# Altium schematic symbol library MyLibraryV2.SchLib: 572 symbols (part 10 of 11)
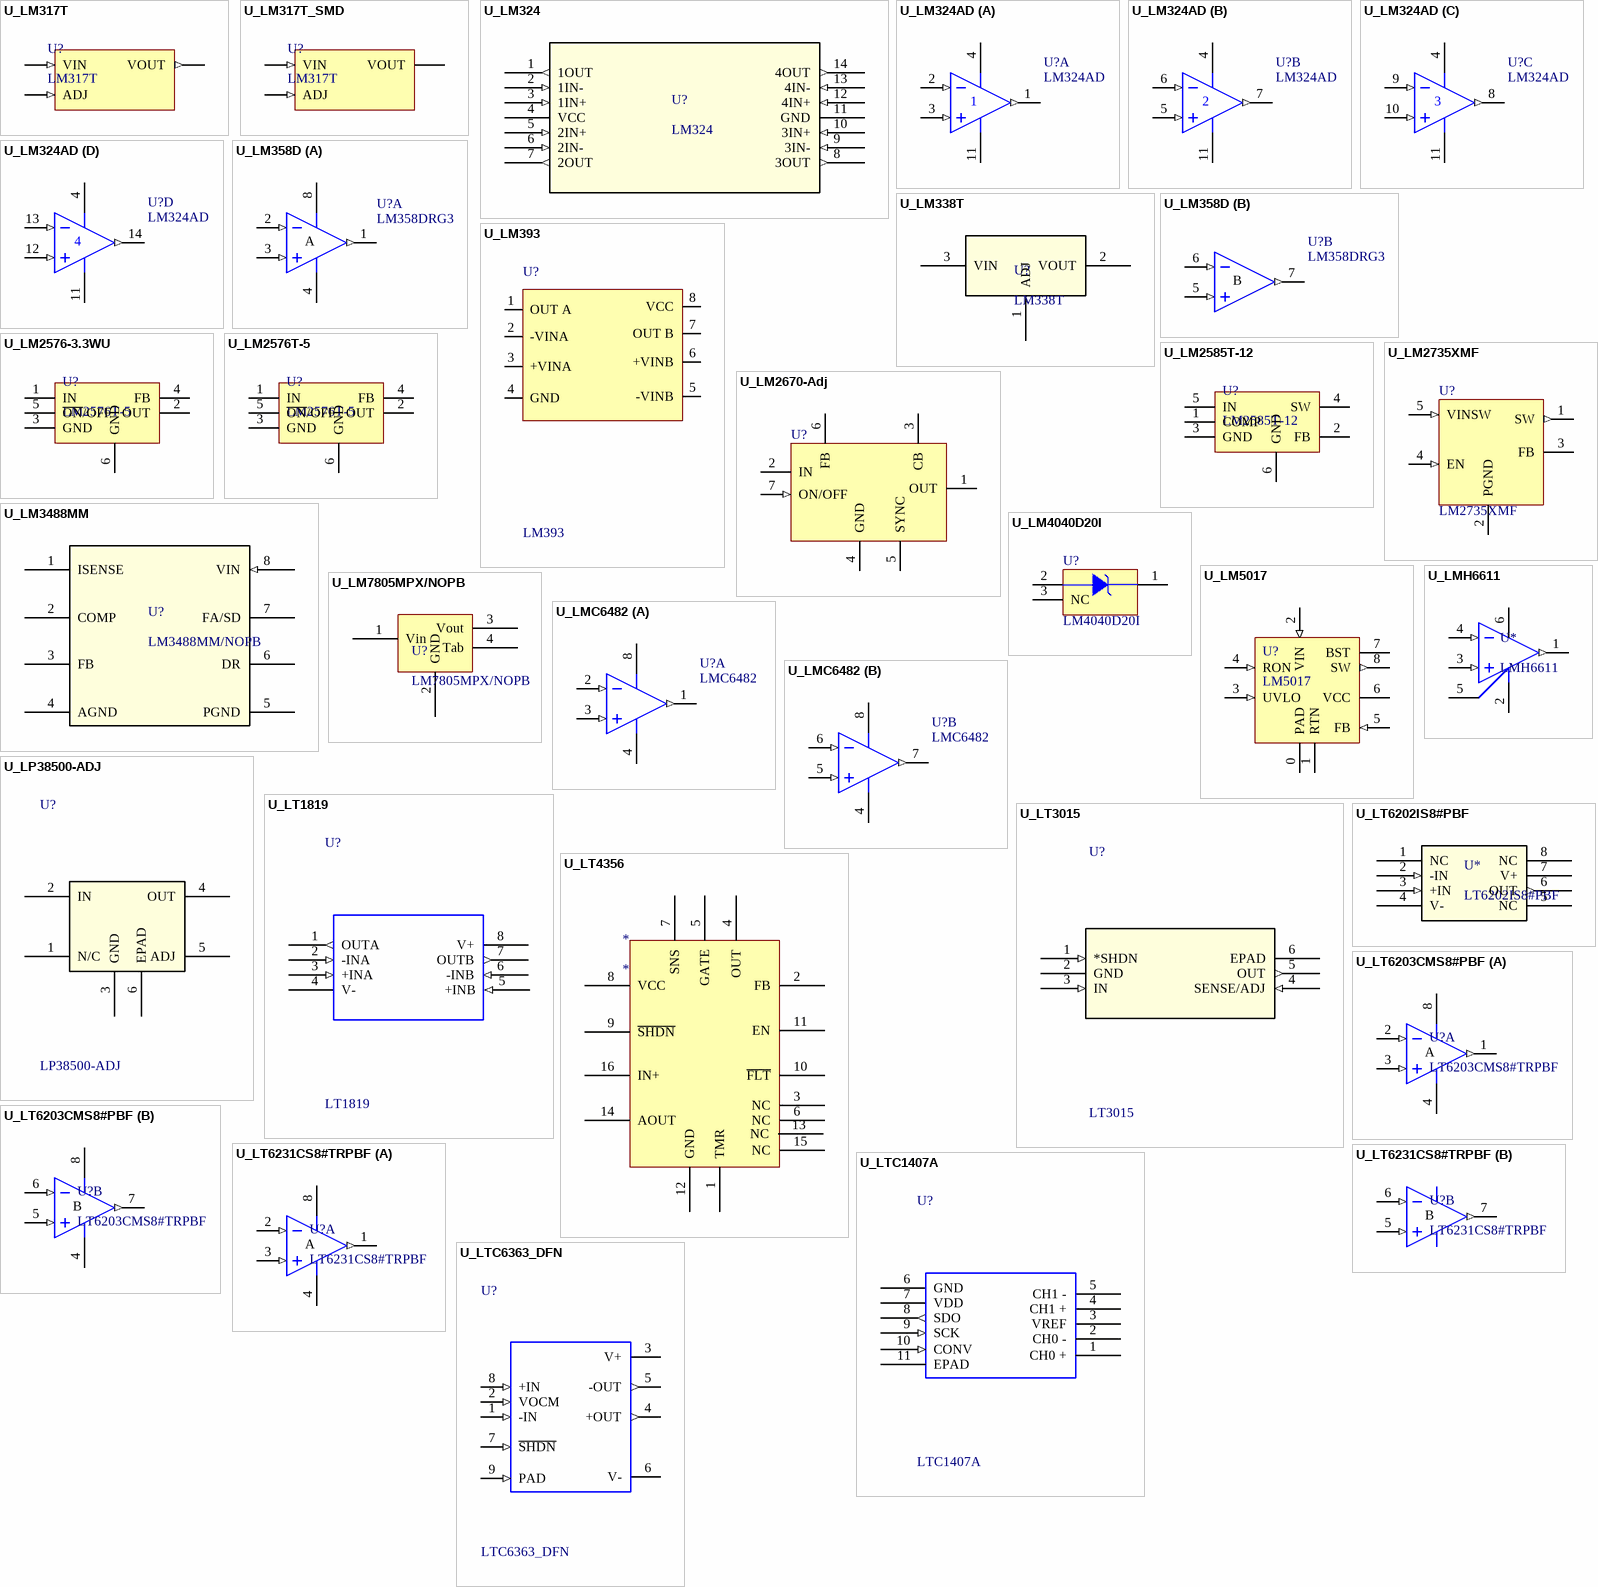
[diagram p25: symbols U_LM317T to U_LTC6363_DFN]

## U_LM358D
designator U?, comment LM358DRG3
Dual standard operational amplifier 8-SOIC 0 to 70; Manufacturer: Texas Instruments; Number of Channels: 2; Output Current: 20mA; Min Supply Voltage: 3V; Slew Rate: 0.3V/µs; Unity Gain Bandwidth Product: 700kHz; Common Mode Rejection Ratio: 65dB; Max Supply Voltage: 32V; Min Dual Supply Voltage: 1.5V; Max Dual Supply Voltage: 16V; Voltage Gain: 100dB; Input Offset Voltage (Vos): 3mV; Input Bias Current: 20nA; Operating Supply Current: 1mA; Output Current per Channel: 30mA; Amplifier Type: GENERAL PURPOSE; Mounting Technology: Surface Mount; Case/Package: SOIC; Pins: 8; Min Operating Temperature: 0°C; Max Operating Temperature: 70°C; Package Quantity: 2500; Packaging: Tape and Reel; Bandwidth: 700kHz; Gain Bandwidth Product: 700kHz; Number of Circuits: 2; Number of Elements: 2; Number of Amplifiers: 2; Supply Current: 1mA; Series: -; Technology: BIPOLAR; Operating Supply Voltage: 16V; Radiation Hardening: No; Reach SVHC Compliant: No; Lead Free: Lead Free; RoHS Compliant: Yes; ComponentLink1URL: https://datasheet.ciiva.com/23838/lm158a-23838839.pdf?src-supplier=Newark; ComponentLink1Description: https://datasheet.ciiva.com/23838/lm158a-23838839.pdf?src-supplier=Newark; ComponentLink2URL: https://datasheet.ciiva.com/46387/1874566-46387194.pdf?src-supplier=Element14; ComponentLink2Description: https://datasheet.ciiva.com/46387/1874566-46387194.pdf?src-supplier=Element14; ComponentLink3URL: https://datasheet.ciiva.com/1795/lm358-1795497.pdf?src-supplier=Digikey; ComponentLink3Description: https://datasheet.ciiva.com/1795/lm358-1795497.pdf?src-supplier=Digikey; ComponentLink4URL: https://datasheet.ciiva.com/1795/lm358-1795496.pdf?src-supplier=Digikey; ComponentLink4Description: https://datasheet.ciiva.com/1795/lm358-1795496.pdf?src-supplier=Digikey; ComponentLink5URL: https://datasheet.ciiva.com/1795/lm358-1795498.pdf?src-supplier=Digikey; ComponentLink5Description: https://datasheet.ciiva.com/1795/lm358-1795498.pdf?src-supplier=Digikey; Supplier 1: Mouser; Supplier Part Number 1: 595-LM358DRG3; Manufacturer Part Number: LM358DRG3; RoHS: Yes; Category: Amplifiers - Op Amps, Buffer, Instrumentation; Stock 1: 14462; Pricing 1: 1=0,4, 10=0,3, 50=0,3, 100=0,168, 1000=0,126, 10000=0,108 (USD); Value: LM358DRG3
footprint U_SOIC-8_2 (SOIC, 8-Leads, Body 4.9x3.9mm, Pitch 1.27mm, IPC Low Density)
part A pins: 1 OUT (out), 2 IN- (in), 3 IN+ (in), 4 GND (power), 8 VCC (power)
part B pins: 5 IN+ (in), 6 IN- (in), 7 OUT (out)
part A text: A
part B text: B

## U_LM393
designator U?, comment LM393
(Modificar) Integrado; Value: LM393
pins: 1 OUT A, 2 -VINA , 3 +VINA, 4 GND, 5 -VINB, 6 +VINB, 7 OUT B, 8 VCC

## U_LM2576-3.3WU
designator U?, comment LM2576T-5
Value: LM2576T-5; Supplier 1: Mouser; Supplier Part Number 1: 998-LM2576-3.3WUTR
footprint U_SMD_TO-263-5
pins: 1 IN, 2 OUT, 3 GND, 4 FB, 5 ~{O}~{N}/OFF, 6 GND

## U_LM2576T-5
designator U?, comment LM2576T-5
Value: LM2576T-5
footprint U_SMD_TO-263-5
pins: 1 IN, 2 OUT, 3 GND, 4 FB, 5 ~{O}~{N}/OFF, 6 GND

## U_LM2585T-12
designator U?, comment LM2585T-12
Value: LM2585T-12
footprint U_SMD_TO-263-5
pins: 1 COMP, 2 FB, 3 GND, 4 SW, 5 IN, 6 GND

## U_LM2670-Adj
designator U?, comment LM2670T-ADJ/NOPB  (value not drawn)
Conv DC-DC 8V to 40V Synchronous Step Down Single-Out 1.2V to 37V 3A 7-Pin(7+Tab) TO-220 Tube; Manufacturer: TI National Semiconductor; Number of Outputs: 1; Switching Frequency: 260kHz; Quiescent Current: 4.2mA; Efficiency: 88%; Output Type: Adjustable; Synchronous Rectifier: No; Output Configuration: Positive; Mounting Technology: Through Hole; Case/Package: TO-220; Pins: 7; Min Operating Temperature: -40°C; Max Operating Temperature: 125°C; Output Voltage: 37V; Output Current: 3A; Packaging: Rail/Tube; Frequency: 260kHz; Max Supply Voltage: 40V; Max Output current: 3A; Min Input Voltage: 8V; Series: SIMPLE SWITCHER®; Min Supply Voltage: 8V; Min Output Voltage: 1.2V; Max Output Voltage: 37V; Termination: Through Hole; Length: 10.16mm; Width: 4.57mm; Height: 8.69mm; Reach SVHC Compliant: No; Lead Free: Lead Free; RoHS Compliant: Yes; ComponentLink1URL: https://datasheet.ciiva.com/41457/001013855-da-01-en-ic-reg-buc-lm2670t-adj-nopb-to-220-7-tid-41457846.pdf?src-supplier=Conrad; ComponentLink1Description: https://datasheet.ciiva.com/41457/001013855-da-01-en-ic-reg-buc-lm2670t-adj-nopb-to-220-7-tid-41457846.pdf?src-supplier=Conrad; Supplier 1: Mouser; Supplier Part Number 1: 926-LM2670T-ADJ/NOPB; Manufacturer Part Number: LM2670T-ADJ/NOPB; RoHS: Yes; Category: Voltage Regulators - Switching; Stock 1: 424; Pricing 1: 1=5,45, 10=4,63, 50=4,63, 100=3,8, 1000=2,87, 10000=2,69 (USD); Value: LM2670T-ADJ/NOPB
footprint U_THT_TO-220-7
pins: 1 OUT, 2 IN, 3 CB, 4 GND, 5 SYNC, 6 FB, 7 ON/OFF (in)

## U_LM2735XMF
designator U?, comment LM2735XMF
520kHz/1.6MHz space efficient boost and SEPIC DC-DC regulator 5-SOT-23 -40 to 125; Manufacturer: TI National Semiconductor; Manufacturer Part Number: LM2735XMF/NOPB; Max Supply Voltage: 5.5V; Max Output current: 3A; Min Supply Voltage: 2.7V; Output Voltage: 24V; Switching Frequency: 1.6MHz; Efficiency: 90%; Number of Outputs: 1; Synchronous Rectifier: No; Min Output Voltage: 3V; Quiescent Current: 7mA; Topology: Boost,SEPIC; Output Type: Adjustable; Supply Current: 500uA; Value: LM2735XMF; Mounting Technology: Surface Mount; Case/Package: SOT-23; Pins: 5; Min Operating Temperature: -40°C; Max Operating Temperature: 125°C; Output Current: 3A; Min Input Voltage: 2.7V; Packaging: Tape and Reel; Package Quantity: 1000; Max Output Voltage: 24V; Operating Supply Voltage: 5.5V; Series: LM2735; Length: 2.92mm; Width: 1.6mm; Height: 1.02mm; Radiation Hardening: No; Reach SVHC Compliant: No; Lead Free: Lead Free; RoHS Compliant: Yes; ComponentLink1URL: https://datasheet.ciiva.com/22669/1802021-22669478.pdf?src-supplier=Element14; ComponentLink1Description: https://datasheet.ciiva.com/22669/1802021-22669478.pdf?src-supplier=Element14; ComponentLink2URL: https://datasheet.ciiva.com/6579/lm2735-6579929.pdf?src-supplier=Digikey; ComponentLink2Description: https://datasheet.ciiva.com/6579/lm2735-6579929.pdf?src-supplier=Digikey; ComponentLink3URL: https://datasheet.ciiva.com/6579/lm2735-6579933.pdf?src-supplier=Digikey; ComponentLink3Description: https://datasheet.ciiva.com/6579/lm2735-6579933.pdf?src-supplier=Digikey; ComponentLink4URL: https://datasheet.ciiva.com/6579/lm2735-6579935.pdf?src-supplier=Digikey; ComponentLink4Description: https://datasheet.ciiva.com/6579/lm2735-6579935.pdf?src-supplier=Digikey; ComponentLink5URL: https://datasheet.ciiva.com/3221/lm2735-3221644.pdf?src-supplier=Avnet; ComponentLink5Description: https://datasheet.ciiva.com/3221/lm2735-3221644.pdf?src-supplier=Avnet; ComponentLink6URL: https://datasheet.ciiva.com/3220/lm2735-3220073.pdf?src-supplier=Avnet; ComponentLink6Description: https://datasheet.ciiva.com/3220/lm2735-3220073.pdf?src-supplier=Avnet; Supplier 1: Mouser; Supplier Part Number 1: 926-LM2735XMF/NOPB; RoHS: Yes; Category: Voltage Regulators - Switching; Stock 1: 5239; Pricing 1: 1=2,86, 10=2,43, 50=2,43, 100=2,06, 1000=1,4, 10000=1,25 (USD)
footprint U_SOT-23-5
pins: 1 SW (out), 2 PGND (power), 3 FB, 4 EN (in), 5 VINSW (in)

## U_LM3488MM
designator U?, comment LM3488MM/NOPB
Boost, Flyback, SEPIC Regulator Positive Output Step-Up, Step-Up/Step-Down  DC-DC Controller IC 8-VSSOP; Manufacturer: Texas Instruments; Frequency: 400kHz; Output Voltage: 300V; Output Current: 1A; Number of Outputs: 1; Min Supply Voltage: 2.97V; Max Supply Voltage: 40V; Switching Frequency: 1MHz; Max Duty Cycle: 100%; Max Output Voltage: 5V; Quiescent Current: 2.7mA; Output Type: Adjustable; Synchronous Rectifier: No; Clock Sync: Yes; Mounting Technology: Surface Mount; Case/Package: VSSOP; Pins: 8; Min Operating Temperature: -40°C; Max Operating Temperature: 125°C; Packaging: Tape and Reel; Package Quantity: 1000; Max Output current: 1A; Min Input Voltage: 2.97V; Termination: SMD/SMT; Topology: Boost,Flyback,SEPIC; Clock Frequency: 1MHz; Duty Cycle: 100%; Series: -; Output Configuration: Positive; Number of Output Phases: 1; Length: 3mm; Width: 3mm; Height: 0.86mm; Radiation Hardening: No; Reach SVHC Compliant: No; Lead Free: Lead Free; RoHS Compliant: Yes; ComponentLink1URL: https://datasheet.ciiva.com/6598/lm3488-6598294.pdf?src-supplier=Digikey; ComponentLink1Description: https://datasheet.ciiva.com/6598/lm3488-6598294.pdf?src-supplier=Digikey; ComponentLink2URL: https://datasheet.ciiva.com/14150/lm3488-eng-tds-14150573.pdf?src-supplier=Distrelec; ComponentLink2Description: https://datasheet.ciiva.com/14150/lm3488-eng-tds-14150573.pdf?src-supplier=Distrelec; ComponentLink3URL: https://datasheet.ciiva.com/48513/lm3488-48513290.pdf?src-supplier=Avnet; ComponentLink3Description: https://datasheet.ciiva.com/48513/lm3488-48513290.pdf?src-supplier=Avnet; Supplier 1: Mouser; Supplier Part Number 1: 926-LM3488MM/NOPB; Manufacturer Part Number: LM3488MM/NOPB; RoHS: Yes; Category: Voltage Regulators - Switching; Stock 1: 5540; Pricing 1: 1=2,75, 10=2,34, 50=2,34, 100=2,03, 1000=1,45, 10000=1,32 (USD); Value: LM3488MM/NOPB
footprint U_TSSOP-8_MSOP-8_LM3488MM (Step Up 100V)
pins: 1 ISENSE, 2 COMP, 3 FB, 4 AGND, 5 PGND, 6 DR (power), 7 FA/SD, 8 VIN (in)

## U_LM4040D20I
designator U?, comment LM4040D20I
(Modificar) Integrado; Value: LM4040D20I
footprint U_SOT-23
pins: 1 K, 2 A, 3 NC

## U_LM5017
designator U?, comment LM5017
7.5-100V Wide Vin, 600mA Constant On-Time Synchronous Buck Regulator 8-SO PowerPAD -40 to 125; Manufacturer: TI National Semiconductor; Manufacturer Part Number: LM5017MR/NOPB; Switching Frequency: 1MHz; Max Supply Voltage: 100V; Number of Outputs: 1; Min Input Voltage: 7.5V; Min Output Voltage: 1.225V; Max Output Voltage: 90V; Synchronous Rectifier: Yes; Quiescent Current: 1.75mA; Output Type: Adjustable; Output Configuration: Positive; Value: LM5017; Mounting Technology: Surface Mount; Pins: 8; Min Operating Temperature: -40°C; Max Operating Temperature: 125°C; Output Current: 600mA; Packaging: Rail/Tube; Lead Free: Lead Free; RoHS Compliant: Yes; ComponentLink1URL: https://datasheet.ciiva.com/6603/lm5017-6603724.pdf?src-supplier=Digikey; ComponentLink1Description: https://datasheet.ciiva.com/6603/lm5017-6603724.pdf?src-supplier=Digikey; Supplier 1: Mouser; Supplier Part Number 1: 926-LM5017MR/NOPB; RoHS: Yes; Category: Voltage Regulators - Switching; Stock 1: 4601; Pricing 1: 1=3,87, 10=3,43, 50=3,43, 100=2,9, 1000=2,63, 10000=2,11 (USD)
pins: 0 PAD, 1 RTN, 2 VIN (in), 3 UVLO (in), 4 RON (in), 5 FB (in), 6 VCC (power), 7 BST (power), 8 SW (out)

## U_LM7805MPX/NOPB
designator U?, comment LM7805MPX/NOPB
Regulador; Manufacturer: Texas Instruments; Quiescent Current: 8mA; Dropout Voltage: 2V; Output Type: Fixed; Output Configuration: Positive; Number of Regulators: 1; Max Supply Voltage: 35V; Min Output Voltage: 5V; Output Current: 1.5A; Power Supply Rejection Ratio (PSRR): 80dB; Accuracy: 3%; Min Supply Voltage: 7.5V; Number of Outputs: 1NUMBER; Output Voltage: 5mV; Mounting Technology: Surface Mount; Case/Package: SOT-223-4; Pins: 4NUMBER; Weight: 0.007055oz; Min Operating Temperature: 0°C; Max Operating Temperature: 125°C; Series: -; Packaging: Tape and Reel; Package Quantity: 2000; Nominal Supply Current: 8mA; Length: 6.5mm; Width: 3.5mm; Height: 1.8mm; Thickness: 1.6mm; Lead Free: Lead Free; RoHS Compliant: Yes; Supplier 1: Mouser; Supplier Part Number 1: 595-LM7805MPX/NOPB; Manufacturer Part Number: LM7805MPX/NOPB; RoHS: Yes; Category: Voltage Regulators - Linear; Stock 1: 45012; Pricing 1: 1=1,6, 10=1,44, 50=1,44, 100=1,12, 1000=0,733, 10000=0,625 (USD); Value: LM7805MPX/NOPB
footprint U_SOT-223
pins: 1 Vin, 2 GND, 3 Vout, 4 Tab

## U_LMC6482
designator U?, comment LMC6482
(Modificar) Integrado; ComponentLink1Description: Manufacturer Link; ComponentLink1URL: http://www.ti.com/; Value: LMC6482
pins on every part: 4 GND (power), 8 VDD (power)
part A pins: 1 OUT (out), 2 IN- (in), 3 IN+ (in)
part B pins: 5 IN+ (in), 6 IN- (in), 7 OUT (out)

## U_LMH6611
designator U*, comment LMH6611
OAMP SMD TSOT-23-6; Manufacturer: TI National Semiconductor; Manufacturer Part Number: LMH6611MKE/NOPB; Max Supply Voltage: 11V; Min Supply Voltage: 2.7V; Slew Rate: 460V/µs; Unity Gain Bandwidth Product: 135MHz; Common Mode Rejection Ratio: 81dB; Min Dual Supply Voltage: 1.35V; Max Dual Supply Voltage: 5.5V; Voltage Gain: 103dB; Dual Supply Voltage: 5V; Number of Channels: 1; Output Current: 100mA; Input Bias Current: 6.5uA; Input Offset Voltage (Vos): 74uV; Operating Supply Current: 3.3mA; Output Current per Channel: 120mA; Amplifier Type: GENERAL PURPOSE; Supply Current: 3.2mA; Bandwidth: 345MHz; -3db Bandwidth: 365MHz; Settling Time: 67ns; Mounting Technology: Surface Mount; Case/Package: TSOT; Pins: 6; Min Operating Temperature: -40°C; Max Operating Temperature: 125°C; Packaging: Tape and Reel; Series: PowerWise®; Package Quantity: 250; Number of Circuits: 1; Gain Bandwidth Product: 135MHz; Number of Elements: 1; Power Supply Rejection Ratio (PSRR): 81dB; Max Output current: 100mA; Number of Amplifiers: 1; Length: 2.97mm; Width: 1.65mm; Height: 0.87mm; Reach SVHC Compliant: No; Lead Free: Lead Free; RoHS Compliant: Yes; ComponentLink1URL: https://datasheet.ciiva.com/6629/lmh6611-6629638.pdf?src-supplier=Digikey; ComponentLink1Description: https://datasheet.ciiva.com/6629/lmh6611-6629638.pdf?src-supplier=Digikey; ComponentLink2URL: https://datasheet.ciiva.com/6629/lmh6611-6629639.pdf?src-supplier=Digikey; ComponentLink2Description: https://datasheet.ciiva.com/6629/lmh6611-6629639.pdf?src-supplier=Digikey; ComponentLink3URL: https://datasheet.ciiva.com/6629/lmh6611-6629640.pdf?src-supplier=Digikey; ComponentLink3Description: https://datasheet.ciiva.com/6629/lmh6611-6629640.pdf?src-supplier=Digikey; ComponentLink4URL: https://datasheet.ciiva.com/48709/001010969-da-01-en-ic-amp-345mhz-lmh6611mke-nopb-sot-6-tid-48709436.pdf?src-supplier=Conrad; ComponentLink4Description: https://datasheet.ciiva.com/48709/001010969-da-01-en-ic-amp-345mhz-lmh6611mke-nopb-sot-6-tid-48709436.pdf?src-supplier=Conrad; Supplier 1: Mouser; Supplier Part Number 1: 926-LMH6611MKE/NOPB; RoHS: Yes; Category: Amplifiers - Op Amps, Buffer, Instrumentation; Stock 1: 1318; Pricing 1: 1=2,47, 10=2,11, 50=2,11, 100=1,81, 1000=1,24, 10000=1,11 (USD); Value: LMH6611
footprint U_SOT-23-6 -TLV2472
pins: 1 OUT (out), 2 V- (power), 3 IN+ (in), 4 IN- (in), 5 ~DIS (power), 6 V+ (power)

## U_LP38500-ADJ
designator U?, comment LP38500-ADJ
(Modificar) Integrado; Value: LP38500-ADJ
pins: 1 N/C, 2 IN (power), 3 GND, 4 OUT, 5 ADJ, 6 EPAD

## U_LT1819
designator U?, comment LT1819
(Modificar) Integrado; Value: LT1819
pins: 1 OUTA (out), 2 -INA (in), 3 +INA (in), 4 V- (power), 5 +INB (in), 6 -INB (in), 7 OUTB (out), 8 V+ (power)

## U_LT3015
designator U?, comment LT3015
(Modificar) Integrado; Value: LT3015
pins: 1 *SHDN (in), 2 GND (power), 3 IN (in), 4 SENSE/ADJ (in), 5 OUT (out), 6 EPAD

## U_LT4356
designator *
footprint U_DO-16
pins: 1 TMR, 2 FB, 3 NC, 4 OUT, 5 GATE, 6 NC, 7 SNS, 8 VCC, 9 ~{S}~{H}~{D}~{N}, 10 ~{F}~{L}~{T}, 11 EN, 12 GND, 13 NC, 14 AOUT, 15 NC, 16 IN+

## U_LT6202IS8#PBF
designator U*, comment LT6202IS8#PBF
(Modificar) Integrado; Value: LT6202IS8#PBF
pins: 1 NC, 2 -IN (in), 3 +IN (in), 4 V- (power), 5 NC, 6 OUT (out), 7 V+ (power), 8 NC

## U_LT6203CMS8#PBF
designator U?, comment LT6203CMS8#TRPBF
Op Amp Dual Gp R-r I/o ±6.3V/12.6V 8-PIN MSOP T/r; Manufacturer: Analog Devices / Linear Technology; Unity Gain Bandwidth Product: 90MHz; Common Mode Rejection Ratio: 60dB; Min Dual Supply Voltage: 1.25V; Max Dual Supply Voltage: 6.3V; Nominal Gain Bandwidth Product: 100MHz; Slew Rate: 25V/µs; Max Supply Voltage: 12.6V; Min Supply Voltage: 2.5V; Number of Circuits: 2; Input Bias Current: 3.8uA; Input Offset Voltage (Vos): 500uV; Operating Supply Current: 2.8mA; Output Current per Channel: 40mA; Voltage Gain: 96.9dB; Amplifier Type: GENERAL PURPOSE; Case/Package: MSOP; Pins: 8; Min Operating Temperature: 0°C; Max Operating Temperature: 70°C; Package Quantity: 2500; Packaging: Tape and Reel; Gain Bandwidth Product: 100MHz; Number of Elements: 2; Power Supply Rejection Ratio (PSRR): 60dB; Number of Channels: 2; Series: -; Technology: BIPOLAR; Lead Free: Lead Free; RoHS Compliant: Yes; ComponentLink1URL: https://datasheet.ciiva.com/1808/2590-1808110.pdf?src-supplier=Digikey; ComponentLink1Description: https://datasheet.ciiva.com/1808/2590-1808110.pdf?src-supplier=Digikey; Supplier 1: Mouser; Supplier Part Number 1: 584-LT6203CMS8#TRPBF; Manufacturer Part Number: LT6203CMS8#TRPBF; RoHS: Yes; Category: Amplifiers - Op Amps, Buffer, Instrumentation; Stock 1: 33; Pricing 1: 1=7,37, 10=6,66, 50=6,35, 100=5,51, 1000=4,18, 10000=4,03 (USD); Value: LT6203CMS8#TRPBF
footprint U_MSOP-8_LT6203CMS8#PBF
part A pins: 1 OUTA (out), 2 INA- (in), 3 INA+ (in), 4 V- (power), 8 V+ (power)
part B pins: 4 V- (power), 5 INB+ (in), 6 INB- (in), 7 OUTB (out), 8 V+ (power)
part A text: A
part B text: B

## U_LT6231CS8#TRPBF
designator U?, comment LT6231CS8#TRPBF
LT6231 - 215MHz, Rail-to-Rail Output, 1.1nV/rtHz, 3.5mA Op Amp Family; Manufacturer: Analog Devices / Linear Technology; Unity Gain Bandwidth Product: 200MHz; Common Mode Rejection Ratio: 90dB; Min Dual Supply Voltage: 1.5V; Max Dual Supply Voltage: 6.3V; Slew Rate: 70V/µs; Max Supply Voltage: 12.6V; Min Supply Voltage: 3V; Number of Circuits: 2; Input Bias Current: 5uA; Input Offset Voltage (Vos): 350uV; Operating Supply Current: 3.3mA; Output Current per Channel: 30mA; Voltage Gain: 106.02dB; Amplifier Type: GENERAL PURPOSE; Case/Package: SOIC; Pins: 8; Min Operating Temperature: 0°C; Max Operating Temperature: 70°C; Package Quantity: 2500; Nominal Gain Bandwidth Product: 215MHz; Packaging: Tape and Reel; Gain Bandwidth Product: 215MHz; Number of Elements: 2; Power Supply Rejection Ratio (PSRR): 90dB; Number of Channels: 2; Series: -; Lead Free: Lead Free; RoHS Compliant: Yes; ComponentLink1URL: https://datasheet.ciiva.com/1807/2098-1807266.pdf?src-supplier=Digikey; ComponentLink1Description: https://datasheet.ciiva.com/1807/2098-1807266.pdf?src-supplier=Digikey; Supplier 1: Mouser; Supplier Part Number 1: 584-LT6231CS8#TRPBF; Manufacturer Part Number: LT6231CS8#TRPBF; RoHS: Yes; Category: Amplifiers - Op Amps, Buffer, Instrumentation; Stock 1: 6485; Pricing 1: 1=6,32, 10=5,37, 50=5,37, 100=4,65, 1000=3,34, 10000=3,12 (USD); Value: LT6231CS8#TRPBF
footprint U_SOIC-8_2 (SOIC, 8-Leads, Body 4.9x3.9mm, Pitch 1.27mm, IPC Low Density)
part A pins: 1 OUTA (out), 2 INA- (in), 3 INA+ (in), 4 V- (power), 8 V+ (power)
part B pins: 5 INB+ (in), 6 INB- (in), 7 OUTB (out)
part A text: A
part B text: B

## U_LTC1407A
designator U?, comment LTC1407A
ADC SMD MSOP-10 (OK); Manufacturer: Analog Devices / Linear Technology; Manufacturer Part Number: LTC1407AIMSE-1#PBF; Interface: SPI,Serial; Max Power Dissipation: 14mW; Operating Supply Voltage: 3V; Min Supply Voltage: 2.7V; Max Supply Voltage: 3.6V; Number of Bits: 14; Sampling Rate: 3000000S/s; Number of Converters: 1; Resolution: 14b; Polarity: Bipolar; Power Dissipation: 100mW; Supply Type: Single; Integral Nonlinearity (INL): 4LSB; Mounting Technology: Surface Mount; Case/Package: MSOP; Pins: 10; Min Operating Temperature: -40°C; Max Operating Temperature: 85°C; Package Quantity: 50; Packaging: Rail/Tube; Number of Elements: 1; Lead Free: Lead Free; RoHS Compliant: Yes; ComponentLink1URL: https://datasheet.ciiva.com/6664/downloaddocument-donavid-h0-c1-c1155-c1001-c1158-p2484-d2198-6664777.pdf?src-supplier=Digikey; ComponentLink1Description: https://datasheet.ciiva.com/6664/downloaddocument-donavid-h0-c1-c1155-c1001-c1158-p2484-d2198-6664777.pdf?src-supplier=Digikey; Supplier 1: Mouser; Supplier Part Number 1: 584-C1407AIMSE-1PBF; RoHS: Yes; Category: Analog to Digital Converters (ADCs); Stock 1: 156; Pricing 1: 1=21,15, 10=19,45, 50=18,64, 100=16,42, 1000=16,42, 10000=16,42 (USD); Value: LTC1407A
footprint U_MSOP-10_MSE +GND
pins: 1 CH0 +, 2 CH0 -, 3 VREF, 4 CH1 +, 5 CH1 - (power), 6 GND, 7 VDD, 8 SDO (out), 9 SCK (in), 10 CONV (in), 11 EPAD (power)

## U_LTC6363_DFN
designator U?, comment LTC6363_DFN
(Modificar) Integrado; Value: LTC6363_DFN
pins: 1 -IN (in), 2 VOCM (in), 3 V+ (power), 4 +OUT (out), 5 -OUT (out), 6 V- (power), 7 ~{SHDN} (in), 8 +IN (in), 9 PAD (in)

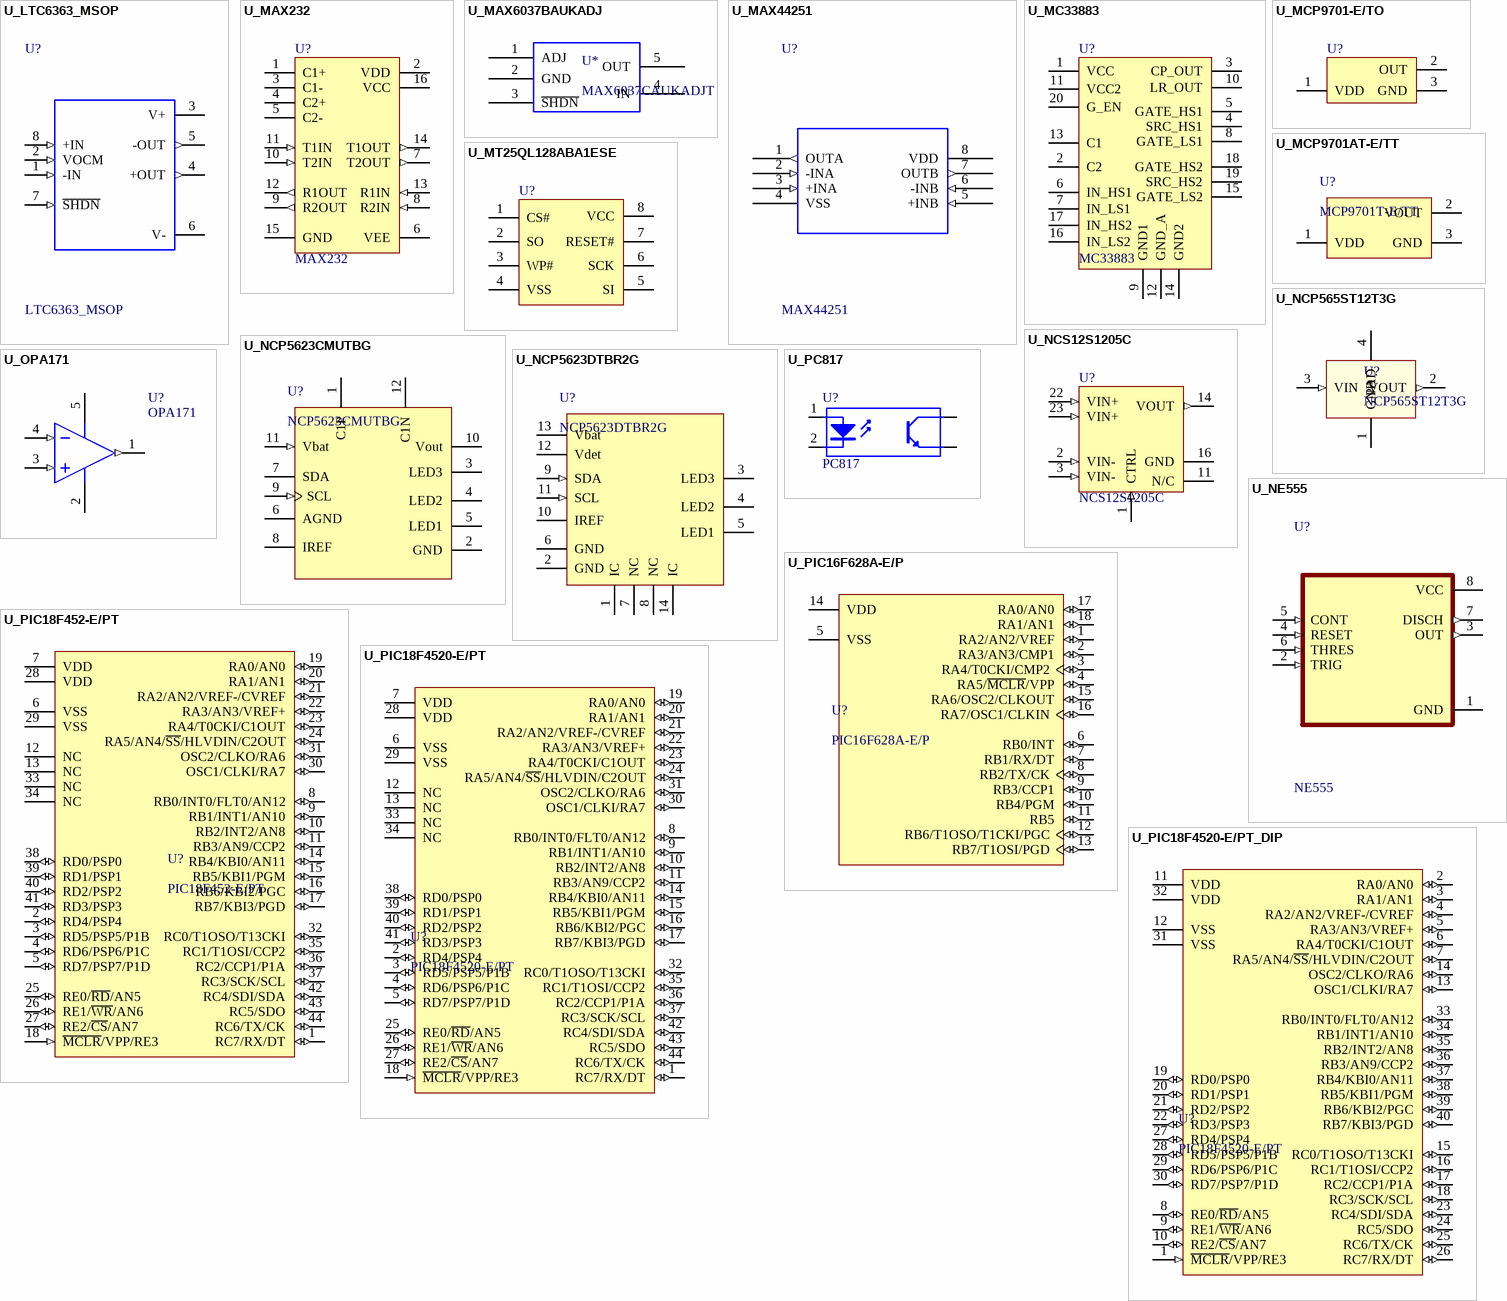
[diagram p14: symbols U_LTC6363_MSOP to U_PIC18F4520-E/PT_DIP]

## U_LTC6363_MSOP
designator U?, comment LTC6363_MSOP
(Modificar) Integrado; Value: LTC6363_MSOP
pins: 1 -IN (in), 2 VOCM (in), 3 V+ (power), 4 +OUT (out), 5 -OUT (out), 6 V- (power), 7 ~{SHDN} (in), 8 +IN (in)

## U_MAX232
designator U?, comment MAX232
Dual Transmitter/Receiver RS-232 16-Pin SOIC T/R / IC DUAL EIA-232 DRVR/RCVR 16SOIC; Manufacturer: Texas Instruments; Manufacturer Part Number: MAX232IDR; Number of Receivers: 2; Data Rate: 120Kbps; Operating Supply Voltage: 5V; Logic Function: Transceiver,Receiver; Number of Transceivers: 1; Supply Current: 10mA; Min Supply Voltage: 4.5V; Max Supply Voltage: 5.5V; Simplex/Duplex: Full Duplex; Receiver Hysteresis: 500mV; ComponentLink1Description: Manufacturer Link; ComponentLink1URL: http://www.maxim-ic.com/; ComponentLink2Description: Datasheet; ComponentLink2URL: http://pdfserv.maxim-ic.com/en/ds/MAX220-MAX249.pdf; Mounting Technology: Surface Mount; Case/Package: D; Pins: 16; Weight: 0.004998oz; Min Operating Temperature: -40°C; Max Operating Temperature: 85°C; Packaging: Tape and Reel; Number of Transmitters: 2; Number of Drivers: 2; Series: -; Operating Supply Current: 10mA; Thickness: 1.58mm; Lead Free: Lead Free; RoHS Compliant: Yes; Reach SVHC Compliant: No; ComponentLink3URL: https://datasheet.ciiva.com/1769/max232-1769773.pdf?src-supplier=Digikey; ComponentLink3Description: https://datasheet.ciiva.com/1769/max232-1769773.pdf?src-supplier=Digikey; ComponentLink4URL: https://datasheet.ciiva.com/1769/max232-1769774.pdf?src-supplier=Digikey; ComponentLink4Description: https://datasheet.ciiva.com/1769/max232-1769774.pdf?src-supplier=Digikey; ComponentLink5URL: https://datasheet.ciiva.com/1769/max232-1769775.pdf?src-supplier=Digikey; ComponentLink5Description: https://datasheet.ciiva.com/1769/max232-1769775.pdf?src-supplier=Digikey; ComponentLink6URL: https://datasheet.ciiva.com/48709/001047879-da-01-en-ic-eia232-drv-rcv-max232idr-soic-16-tid-48709223.pdf?src-supplier=Conrad; ComponentLink6Description: https://datasheet.ciiva.com/48709/001047879-da-01-en-ic-eia232-drv-rcv-max232idr-soic-16-tid-48709223.pdf?src-supplier=Conrad; Supplier 1: Mouser; Supplier Part Number 1: 595-MAX232IDR; RoHS: Yes; Category: Interface ICs; Stock 1: 2817; Pricing 1: 1=0,81, 10=0,697, 50=0,697, 100=0,544, 1000=0,373, 10000=0,304 (USD); Value: MAX232
footprint U_DO-16
pins: 1 C1+, 2 VDD (power), 3 C1-, 4 C2+, 5 C2-, 6 VEE (power), 7 T2OUT (out), 8 R2IN (in), 9 R2OUT (out), 10 T2IN (in), 11 T1IN (in), 12 R1OUT (out), 13 R1IN (in), 14 T1OUT (out), 15 GND (power), 16 VCC (power)

## U_MAX6037BAUKADJ
designator U*, comment MAX6037CAUKADJT
V-Ref Adjustable 1.184V to 5V 5mA 5-Pin SOT-23 T/R; Manufacturer: Maxim; Manufacturer Part Number: MAX6037CAUKADJ+T; Max Supply Voltage: 6V; Reference Type: Series,Adjustable; Tolerance: 0.5%; Temperature Coefficient: 50ppm/°C; Operating Supply Current: 250uA; Mounting Technology: Surface Mount; Case/Package: SOT-23-5; Pins: 5; Min Operating Temperature: -40°C; Max Operating Temperature: 125°C; Output Voltage: 5V; Max Output current: 5mA; Package Quantity: 2500; Packaging: Tape and Reel; Output Current: 5mA; Reference Voltage: 5V; Output Type: Adjustable; Min Output Voltage: 1.184V; Max Output Voltage: 5V; Series: -; Lead Free: Lead Free; RoHS Compliant: Yes; Reach SVHC Compliant: Unknown; ComponentLink1URL: https://datasheet.ciiva.com/2008/max6037-max6037c-2008594.pdf?src-supplier=Digikey; ComponentLink1Description: https://datasheet.ciiva.com/2008/max6037-max6037c-2008594.pdf?src-supplier=Digikey; ComponentLink2URL: https://datasheet.ciiva.com/2008/max6037-max6037c-2008595.pdf?src-supplier=Digikey; ComponentLink2Description: https://datasheet.ciiva.com/2008/max6037-max6037c-2008595.pdf?src-supplier=Digikey; ComponentLink3URL: https://datasheet.ciiva.com/2008/max6037-max6037c-2008596.pdf?src-supplier=Digikey; ComponentLink3Description: https://datasheet.ciiva.com/2008/max6037-max6037c-2008596.pdf?src-supplier=Digikey; Supplier 1: Mouser; Supplier Part Number 1: 700-MAX6037CAUKADJT; RoHS: Yes; Category: Voltage References; Stock 1: 2528; Pricing 1: 1=3,61, 10=3,24, 50=3,24, 100=2,65, 1000=1,9, 10000=1,81 (USD); Value: MAX6037CAUKADJT
footprint U_SOT-23-5_MAX6037BAUKADJ
pins: 1 ADJ, 2 GND, 3 ~{SHDN}, 4 IN (power), 5 OUT

## U_MAX44251
designator U?, comment MAX44251
(Modificar) Integrado; Value: MAX44251
pins: 1 OUTA (out), 2 -INA (in), 3 +INA (in), 4 VSS (power), 5 +INB (in), 6 -INB (in), 7 OUTB (out), 8 VDD (power)

## U_MC33883
designator U?, comment MC33883
(Modificar) Integrado; Value: MC33883
pins: 1 VCC, 2 C2, 3 CP_OUT, 4 SRC_HS1, 5 GATE_HS1 (power), 6 IN_HS1 (power), 7 IN_LS1 (power), 8 GATE_LS1 (power), 9 GND1 (power), 10 LR_OUT (power), 11 VCC2 (power), 12 GND_A (power), 13 C1 (power), 14 GND2 (power), 15 GATE_LS2 (power), 16 IN_LS2 (power), 17 IN_HS2 (power), 18 GATE_HS2 (power), 19 SRC_HS2 (power), 20 G_EN (power)

## U_MCP9701-E/TO
designator U?, comment MCP9701-E/TO  (value not drawn)
Analog Output Temperature Sensor, 3.1 to 5.5V, TO-92-3, RoHS; Manufacturer: Microchip; Min Supply Voltage: 3.1V; Output Current: 100uA; Interface: Serial; Min Supply Voltage (DC): 3V; Operating Supply Current: 6uA; Resolution: 8b; Accuracy: 2%; Output Type: Analog,Analog Voltage,Digital; Number of Bits: 8; Mounting Technology: Through Hole; Case/Package: TO-92; Pins: 3; Min Operating Temperature: -40°C; Max Operating Temperature: 125°C; Packaging: Bag; Series: -; Max Supply Voltage: 5.5V; Max Supply Voltage (DC): 5.5V; Sensor Type: Temperature; Termination: Through Hole; Output: ANALOG; Supply Current: 6uA; Length: 4.71mm; Width: 3.62mm; Height: 4.62mm; Radiation Hardening: No; RoHS Compliant: Yes; Reach SVHC Compliant: No; Lead Free: Lead Free; ComponentLink1URL: https://datasheet.ciiva.com/3278/21942e-3278279.pdf?src-supplier=Avnet; ComponentLink1Description: https://datasheet.ciiva.com/3278/21942e-3278279.pdf?src-supplier=Avnet; ComponentLink2URL: https://datasheet.ciiva.com/2847/21942e-2847070.pdf?src-supplier=Digikey; ComponentLink2Description: https://datasheet.ciiva.com/2847/21942e-2847070.pdf?src-supplier=Digikey; ComponentLink3URL: https://datasheet.ciiva.com/16378/filehandler-aspxddocname-en022859-16378887.pdf?src-supplier=Future+Electronics; ComponentLink3Description: https://datasheet.ciiva.com/16378/filehandler-aspxddocname-en022859-16378887.pdf?src-supplier=Future+Electronics; ComponentLink4URL: https://datasheet.ciiva.com/1514/21942e-1514002.pdf?src-supplier=Element14; ComponentLink4Description: https://datasheet.ciiva.com/1514/21942e-1514002.pdf?src-supplier=Element14; ComponentLink5URL: https://datasheet.ciiva.com/14547/70047981-14547143.pdf?src-supplier=Allied+Electronics; ComponentLink5Description: https://datasheet.ciiva.com/14547/70047981-14547143.pdf?src-supplier=Allied+Electronics; Supplier 1: Mouser; Supplier Part Number 1: 579-MCP9701-E/TO; Manufacturer Part Number: MCP9701-E/TO; RoHS: Yes; Category: Temperature and Humidity Sensors; Stock 1: 6254; Pricing 1: 1=0,53, 10=0,53, 50=0,44, 100=0,4, 1000=0,4, 10000=0,4 (USD); Value: MCP9701-E/TO
footprint U_to-92_LM35DZ
pins: 1 VDD, 2 OUT, 3 GND

## U_MCP9701AT-E/TT
designator U?, comment MCP9701T-E/TT
Analog Output Temperature Sensor, 3.1 to 5.5V, SOT-23-3, RoHS; Manufacturer: Microchip; Min Supply Voltage: 3.1V; Output Current: 100uA; Min Supply Voltage (DC): 3V; Operating Supply Current: 6uA; Resolution: 8b; Number of Bits: 8; Output Type: Analog,Analog Voltage; Mounting Technology: Surface Mount; Case/Package: SOT-23; Pins: 3; Min Operating Temperature: -40°C; Max Operating Temperature: 125°C; Max Supply Voltage: 5.5V; Packaging: Tape and Reel; Package Quantity: 3000; Max Supply Voltage (DC): 5.5V; Max Output current: 100uA; Series: -; Supply Current: 6uA; Length: 3.05mm; Width: 1.4mm; Height: 1.02mm; Radiation Hardening: No; Reach SVHC Compliant: No; Lead Free: Lead Free; RoHS Compliant: Yes; ComponentLink1URL: https://datasheet.ciiva.com/2847/21942e-2847560.pdf?src-supplier=Digikey; ComponentLink1Description: https://datasheet.ciiva.com/2847/21942e-2847560.pdf?src-supplier=Digikey; ComponentLink2URL: https://datasheet.ciiva.com/2847/21942e-2847561.pdf?src-supplier=Digikey; ComponentLink2Description: https://datasheet.ciiva.com/2847/21942e-2847561.pdf?src-supplier=Digikey; ComponentLink3URL: https://datasheet.ciiva.com/2847/21942e-2847562.pdf?src-supplier=Digikey; ComponentLink3Description: https://datasheet.ciiva.com/2847/21942e-2847562.pdf?src-supplier=Digikey; ComponentLink4URL: https://datasheet.ciiva.com/12076/20001942f-461622-12076823.pdf?src-supplier=Mouser; ComponentLink4Description: https://datasheet.ciiva.com/12076/20001942f-461622-12076823.pdf?src-supplier=Mouser; ComponentLink5URL: https://datasheet.ciiva.com/1514/21942e-1514007.pdf?src-supplier=Element14; ComponentLink5Description: https://datasheet.ciiva.com/1514/21942e-1514007.pdf?src-supplier=Element14; Supplier 1: Mouser; Supplier Part Number 1: 579-MCP9701T-E/TT; Manufacturer Part Number: MCP9701T-E/TT; RoHS: Yes; Category: Temperature and Humidity Sensors; Stock 1: 114733; Pricing 1: 1=0,3, 10=0,291, 50=0,24, 100=0,22, 1000=0,22, 10000=0,187 (USD); Value: MCP9701T-E/TT
footprint U_SOT-23
pins: 1 VDD (power), 2 VOUT (power), 3 GND (power)

## U_MT25QL128ABA1ESE
designator U?, comment MT25QL128ABA1ESE  (value not drawn)
SPI Flash Memory SMD 8-SO; Manufacturer: Micron Technology; Manufacturer Part Number: MT25QL128ABA1ESE-0SIT TR; Memory Format: Non-Volatile,FLASH; Memory Size: 128Mb; Frequency: 133MHz; Mounting Technology: Surface Mount; Case/Package: SOIC; Pins: 8; Min Operating Temperature: -40°C; Max Operating Temperature: 85°C; Packaging: Cut Tape; Series: -; ComponentLink1URL: https://www.micron.com/~/media/documents/products/data-sheet/nor-flash/serial-nor/mt25q/die-rev-a/mt25q_qlhs_l_128_aba_0.pdf?src-supplier=Digikey; ComponentLink1Description: https://www.micron.com/~/media/documents/products/data-sheet/nor-flash/serial-nor/mt25q/die-rev-a/mt25q_qlhs_l_128_aba_0.pdf?src-supplier=Digikey; Supplier 1: Mouser; Supplier Part Number 1: 340-224871-REEL; RoHS: Yes; Category: Memory; Stock 1: 34824; Pricing 1: 1=4,02, 10=3,2, 50=3,2, 100=3,02, 1000=2,85, 10000=2,64 (USD); Value: MT25QL128ABA1ESE
footprint U_SO-8 (SOC, 8-Leads, Body 8x5.3mm, Pitch 1.27mm, IPC Low Density)
pins: 1 CS# (power), 2 SO (power), 3 WP# (power), 4 VSS (power), 5 SI (power), 6 SCK (power), 7 RESET# (power), 8 VCC (power)

## U_NCP565ST12T3G
designator U?, comment NCP565ST12T3G
Regulador; Manufacturer: ON Semiconductor; Number of Outputs: 1; Min Input Voltage: 2.5V; Output Voltage: 1.2V; Output Current: 1.5A; Max Supply Voltage: 9V; Dropout Voltage: 900mV; Min Current Limit: 1.6A; Polarity: Positive; Output Voltage Accuracy: 3%; Output Type: Fixed; Mounting Technology: Surface Mount; Case/Package: SOT-223; Pins: 3; Min Operating Temperature: -40°C; Max Operating Temperature: 125°C; Packaging: Tape and Reel; Max Output current: 1.5A; Package Quantity: 1; Reference Voltage: 900mV; Number of Regulators: 1; Nominal Output Voltage: 1.2V; Accuracy: 3%; Series: -; Length: 6.7mm; Width: 3.7mm; Height: 1.65mm; Radiation Hardening: No; Reach SVHC Compliant: No; Lead Free: Lead Free; Halogen Free: Halogen Free; RoHS Compliant: Yes; ComponentLink1URL: https://datasheet.ciiva.com/2061/ncp565-d-2061499.pdf?src-supplier=Digikey; ComponentLink1Description: https://datasheet.ciiva.com/2061/ncp565-d-2061499.pdf?src-supplier=Digikey; ComponentLink2URL: https://datasheet.ciiva.com/2061/ncp565-d-2061500.pdf?src-supplier=Digikey; ComponentLink2Description: https://datasheet.ciiva.com/2061/ncp565-d-2061500.pdf?src-supplier=Digikey; ComponentLink3URL: https://datasheet.ciiva.com/6590/ncp565-d-6590350.pdf?src-supplier=Digikey; ComponentLink3Description: https://datasheet.ciiva.com/6590/ncp565-d-6590350.pdf?src-supplier=Digikey; ComponentLink4URL: https://datasheet.ciiva.com/8230/ncp565-d-8230502.pdf?src-supplier=Avnet; ComponentLink4Description: https://datasheet.ciiva.com/8230/ncp565-d-8230502.pdf?src-supplier=Avnet; ComponentLink5URL: https://datasheet.ciiva.com/8231/ncp565-d-8231421.pdf?src-supplier=Avnet; ComponentLink5Description: https://datasheet.ciiva.com/8231/ncp565-d-8231421.pdf?src-supplier=Avnet; Supplier 1: Digikey; Supplier Part Number 1: NCP565ST12T3GOSCT-ND; Manufacturer Part Number: NCP565ST12T3G; RoHS: Yes; Category: Voltage Regulators - Linear; Stock 1: 6725; Pricing 1: 1=1,22, 10=1,087, 25=1,0312, 100=0,7919, 250=0,69984, 500=0,66302, 1000=0,51569 (USD); Value: NCP565ST12T3G
footprint U_SOT-223
pins: 1 GND (power), 2 VOUT (out), 3 VIN (in), 4 PAD

## U_NCP5623CMUTBG
designator U?, comment NCP5623CMUTBG
(Modificar) Integrado; ComponentLink1URL: http://www.national.com/ds/DA/DAC104S085.pdf; ComponentLink2URL: http://www.national.com/pf/DA/DAC104S085.html; ComponentLink3URL: http://www.national.com/packaging/folders/mub10a.html; Value: NCP5623CMUTBG
pins: 1 C1P (power), 2 GND, 3 LED3, 4 LED2, 5 LED1, 6 AGND (power), 7 SDA (power), 8 IREF, 9 SCL (in), 10 Vout, 11 Vbat (in), 12 C1N (power)

## U_NCP5623DTBR2G
designator U?, comment NCP5623DTBR2G
(Modificar) Integrado; ComponentLink1URL: http://www.national.com/ds/DA/DAC104S085.pdf; ComponentLink2URL: http://www.national.com/pf/DA/DAC104S085.html; ComponentLink3URL: http://www.national.com/packaging/folders/mub10a.html; Value: NCP5623DTBR2G
pins: 1 IC (power), 2 GND, 3 LED3, 4 LED2, 5 LED1, 6 GND (power), 7 NC (power), 8 NC, 9 SDA (in), 10 IREF, 11 SCL (in), 12 Vdet (power), 13 Vbat (power), 14 IC (power)

## U_NCS12S1205C
designator U?, comment NCS12S1205C
(Modificar) Integrado; Value: NCS12S1205C
pins: 1 CTRL (in), 2 VIN- (in), 3 VIN- (in), 11 N/C, 14 VOUT (out), 16 GND, 22 VIN+ (in), 23 VIN+ (in)

## U_NE555
designator U?, comment NE555
IC OSC SINGLE TIMER 100KHZ 8-DIP "555 Type, Timer/Oscillator (Single) IC 100kHz 8-PDIP"; Manufacturer: Texas Instruments; Manufacturer Part Number: NE555P; Operating Supply Current: 2mA; Min Supply Voltage: 4.5V; Max Supply Voltage: 16V; Number of Timers/Counters: 1; High Level Output Current: 200mA; Low Level Output Current: -200mA; Value: NE555; Supplier: Mouser; Supplier Part Number: 595-NE555P; RoHS: Yes; Category: Timers and Oscillators; Stock: 56126; Pricing: 1=0.32, 10=0.193, 50=0.193, 100=0.169, 500=0.162, 1000=0.16, 2500=0.148, 10000=0.148 (USD); Case/Package: PDIP; Weight: 0.015535oz; Min Operating Temperature: 0°C; Max Operating Temperature: 70°C; Packaging: Rail/Tube; Series: NE555; Package Quantity: 50; Length: 9.81mm; Width: 6.35mm; Height: 4.57mm; Thickness: 3.9mm; Lead Free: Lead Free; RoHS Compliant: Yes; ComponentLink1URL: https://datasheet.ciiva.com/1139/sa555-1139904.pdf?src-supplier=Element14; ComponentLink1Description: https://datasheet.ciiva.com/1139/sa555-1139904.pdf?src-supplier=Element14; ComponentLink2URL: https://datasheet.ciiva.com/19457/904085-19457361.pdf?src-supplier=Jameco; ComponentLink2Description: https://datasheet.ciiva.com/19457/904085-19457361.pdf?src-supplier=Jameco; ComponentLink3URL: https://datasheet.ciiva.com/26325/152184-da-01-en-ne555p-timer-tid-26325915.pdf?src-supplier=Conrad; ComponentLink3Description: https://datasheet.ciiva.com/26325/152184-da-01-en-ne555p-timer-tid-26325915.pdf?src-supplier=Conrad; ComponentLink4URL: https://datasheet.ciiva.com/1233/ne555-1233454.pdf?src-supplier=Digikey; ComponentLink4Description: https://datasheet.ciiva.com/1233/ne555-1233454.pdf?src-supplier=Digikey; ComponentLink5URL: https://datasheet.ciiva.com/14274/ne555-14274456.pdf?src-supplier=Avnet; ComponentLink5Description: https://datasheet.ciiva.com/14274/ne555-14274456.pdf?src-supplier=Avnet; ComponentLink6URL: https://datasheet.ciiva.com/14094/ne555-series-eng-tds-14094950.pdf?src-supplier=Distrelec; ComponentLink6Description: https://datasheet.ciiva.com/14094/ne555-series-eng-tds-14094950.pdf?src-supplier=Distrelec; ComponentLink7URL: https://datasheet.ciiva.com/1147/1764032-1147750.pdf?src-supplier=Newark; ComponentLink7Description: https://datasheet.ciiva.com/1147/1764032-1147750.pdf?src-supplier=Newark; ComponentLink8URL: https://datasheet.ciiva.com/15152/getdatasheetpartid-248510-15152620.pdf?src-supplier=Verical; ComponentLink8Description: https://datasheet.ciiva.com/15152/getdatasheetpartid-248510-15152620.pdf?src-supplier=Verical
footprint U_SOIC-8_2 (SOIC, 8-Leads, Body 4.9x3.9mm, Pitch 1.27mm, IPC Low Density)
pins: 1 GND (power), 2 TRIG (in), 3 OUT (out), 4 RESET (in), 5 CONT (in), 6 THRES (in), 7 DISCH (out), 8 VCC (power)

## U_OPA171
designator U?, comment OPA171
(Modificar) Integrado; Value: OPA171
pins: 1 OUT (out), 2 V- (power), 3 IN+ (in), 4 IN- (in), 5 V+ (power)

## U_PC817
designator U?, comment PC817
Optocoacoplador SMD; Manufacturer: ON Semiconductor / Fairchild; Manufacturer Part Number: FOD817DSD; Number of Channels: 1; Collector Emitter Voltage (VCEO): 200mV; Max Power Dissipation: 200mW; Output Voltage: 70V; Forward Current: 50mA; Forward Voltage: 1.4V; Reverse Breakdown Voltage: 6V; Rise Time: 18000ns; Isolation Voltage: 5kV; Current Transfer Ratio: 600%; Input Type: DC; Mounting Technology: Surface Mount; Case/Package: SMD/SMT; Pins: 4; Weight: 0g; Min Operating Temperature: -55°C; Max Operating Temperature: 110°C; Packaging: Tape and Reel; Package Quantity: 1; Max Output Voltage: 70V; Output Current per Channel: 50mA; Max Collector Current: 50mA; Collector Emitter Saturation Voltage: 200mV; Reverse Voltage (DC): 6V; Fall Time: 18000ns; Max Input Current: 50mA; Number of Elements: 1; Power Dissipation: 200mW; Input Current: 50mA; Number of Circuits: 1; Series: -; Collector-emitter Voltage-Max: 200mV; Isolation Voltage-Max: 5kV; Radiation Hardening: No; Reach SVHC Compliant: No; Lead Free: Lead Free; RoHS Compliant: Yes; ComponentLink1URL: https://datasheet.ciiva.com/2085/fod817-2085872.pdf?src-supplier=Digikey; ComponentLink1Description: https://datasheet.ciiva.com/2085/fod817-2085872.pdf?src-supplier=Digikey; ComponentLink2URL: https://datasheet.ciiva.com/17277/fod817-17277350.pdf?src-supplier=Future+Electronics; ComponentLink2Description: https://datasheet.ciiva.com/17277/fod817-17277350.pdf?src-supplier=Future+Electronics; ComponentLink3URL: https://datasheet.ciiva.com/2085/fod817d-2085873.pdf?src-supplier=Digikey; ComponentLink3Description: https://datasheet.ciiva.com/2085/fod817d-2085873.pdf?src-supplier=Digikey; ComponentLink4URL: https://datasheet.ciiva.com/2085/fod817d-2085874.pdf?src-supplier=Digikey; ComponentLink4Description: https://datasheet.ciiva.com/2085/fod817d-2085874.pdf?src-supplier=Digikey; RoHS: Yes; Category: Optocouplers; Stock 1: 135339; Pricing 1: 1=0,62, 10=0,367, 50=0,367, 100=0,222, 1000=0,158, 10000=0,139 (USD); Value: PC817; Supplier 1: Mouser; Supplier Part Number 1: 512-FOD817DSD
footprint U_opto_PC817 (Optoacoplador SMD)
pins: 1 A "Anode", 2 K "Cathode", 3 E "Emitter", 4 C "Collector"

## U_PIC16F628A-E/P
designator U?, comment PIC16F628A-E/P
Value: PIC16F628A-E/P
footprint U_PDIP300-P18
pins: 1 RA2/AN2/VREF (io), 2 RA3/AN3/CMP1 (io), 3 RA4/T0CKI/CMP2 (io), 4 RA5/~{MCLR}/VPP (io), 5 VSS (power), 6 RB0/INT (io), 7 RB1/RX/DT (io), 8 RB2/TX/CK (io), 9 RB3/CCP1 (io), 10 RB4/PGM (io), 11 RB5 (io), 12 RB6/T1OSO/T1CKI/PGC (io), 13 RB7/T1OSI/PGD (io), 14 VDD (power), 15 RA6/OSC2/CLKOUT (io), 16 RA7/OSC1/CLKIN (io), 17 RA0/AN0 (io), 18 RA1/AN1 (io)

## U_PIC18F452-E/PT
designator U?, comment PIC18F452-E/PT
(Modificar) PIC18F Series 32 kB Flash 1.5 KB RAM 40 MHz 8-Bit Microcontroller - TQFP-44; Manufacturer: Microchip; Max Power Dissipation: 1W; RAM Size: 1.5KB; Number of Timers/Counters: 4; Operating Supply Voltage: 5V; Frequency: 40MHz; Interface: I2C,SPI,USART,UART; Max Supply Voltage: 5.5V; Min Supply Voltage: 4.2V; Number of PWM Channels: 2; Number of I/Os: 34; Number of ADC Channels: 8; Number of UART Channels: 1; Data Bus Width: 8b; Watchdog Timer: Yes; Memory Size: 32KB; Access Time: 40us; Peripherals: Brown-out Detect/Reset,POR,PWM,WDT,LVD,I2C; Core Architecture: PIC; Oscillator Type: External; Case/Package: TQFP; Pins: 44; Min Operating Temperature: -40°C; Max Operating Temperature: 125°C; Package Quantity: 160; Packaging: Tray; Series: PIC® 18F; Number of Programmable I/O: 34; Number of Bits: 8; Clock Frequency: 40MHz; Number of SPI Channels: 1; Number of I2C Channels: 1; Memory Format: FLASH; Number of A/D Converters: 1; Length: 10.1mm; Width: 10.1mm; Height: 1.05mm; Radiation Hardening: No; Reach SVHC Compliant: No; Lead Free: Lead Free; RoHS Compliant: Yes; ComponentLink1URL: https://datasheet.ciiva.com/15122/getdatasheetpartid-99799-15122255.pdf?src-supplier=Verical; ComponentLink1Description: https://datasheet.ciiva.com/15122/getdatasheetpartid-99799-15122255.pdf?src-supplier=Verical; ComponentLink2URL: https://datasheet.ciiva.com/1584/39564c-1584356.pdf?src-supplier=Digikey; ComponentLink2Description: https://datasheet.ciiva.com/1584/39564c-1584356.pdf?src-supplier=Digikey; ComponentLink3URL: https://datasheet.ciiva.com/16347/filehandler-aspxddocname-en011595-16347653.pdf?src-supplier=Future+Electronics; ComponentLink3Description: https://datasheet.ciiva.com/16347/filehandler-aspxddocname-en011595-16347653.pdf?src-supplier=Future+Electronics; ComponentLink4URL: https://datasheet.ciiva.com/9230/39564c-9230332.pdf?src-supplier=Avnet; ComponentLink4Description: https://datasheet.ciiva.com/9230/39564c-9230332.pdf?src-supplier=Avnet; Supplier 1: Digikey; Supplier Part Number 1: PIC18F452-E/PT-ND; Manufacturer Part Number: PIC18F452-E/PT; RoHS: Yes; Category: Microcontrollers; Stock 1: 627; Pricing 1: 1=10,82 (USD); Value: PIC18F452-E/PT
footprint U_TQFP-PT44_N
pins: 1 RC7/RX/DT (io), 2 RD4/PSP4 (io), 3 RD5/PSP5/P1B (io), 4 RD6/PSP6/P1C (io), 5 RD7/PSP7/P1D (io), 6 VSS (power), 7 VDD (power), 8 RB0/INT0/FLT0/AN12 (io), 9 RB1/INT1/AN10 (io), 10 RB2/INT2/AN8 (io), 11 RB3/AN9/CCP2 (io), 12 NC, 13 NC, 14 RB4/KBI0/AN11 (io), 15 RB5/KBI1/PGM (io), 16 RB6/KBI2/PGC (io), 17 RB7/KBI3/PGD (io), 18 ~{MCLR}/VPP/RE3 (in), 19 RA0/AN0 (io), 20 RA1/AN1 (io), 21 RA2/AN2/VREF-/CVREF (io), 22 RA3/AN3/VREF+ (io), 23 RA4/T0CKI/C1OUT (io), 24 RA5/AN4/~{SS}/HLVDIN/C2OUT (io), 25 RE0/~{RD}/AN5 (io), 26 RE1/~{WR}/AN6 (io), 27 RE2/~{CS}/AN7 (io), 28 VDD (power), 29 VSS (power), 30 OSC1/CLKI/RA7 (io), 31 OSC2/CLKO/RA6 (io), 32 RC0/T1OSO/T13CKI (io), 33 NC, 34 NC, 35 RC1/T1OSI/CCP2 (io), 36 RC2/CCP1/P1A (io), 37 RC3/SCK/SCL (io), 38 RD0/PSP0 (io), 39 RD1/PSP1 (io), 40 RD2/PSP2 (io), 41 RD3/PSP3 (io), 42 RC4/SDI/SDA (io), 43 RC5/SDO (io), 44 RC6/TX/CK (io)

## U_PIC18F4520-E/PT
designator U?, comment PIC18F4520-E/PT
Value: PIC18F4520-E/PT
footprint U_TQFP-PT44_N
pins: 1 RC7/RX/DT (io), 2 RD4/PSP4 (io), 3 RD5/PSP5/P1B (io), 4 RD6/PSP6/P1C (io), 5 RD7/PSP7/P1D (io), 6 VSS (power), 7 VDD (power), 8 RB0/INT0/FLT0/AN12 (io), 9 RB1/INT1/AN10 (io), 10 RB2/INT2/AN8 (io), 11 RB3/AN9/CCP2 (io), 12 NC, 13 NC, 14 RB4/KBI0/AN11 (io), 15 RB5/KBI1/PGM (io), 16 RB6/KBI2/PGC (io), 17 RB7/KBI3/PGD (io), 18 ~{MCLR}/VPP/RE3 (in), 19 RA0/AN0 (io), 20 RA1/AN1 (io), 21 RA2/AN2/VREF-/CVREF (io), 22 RA3/AN3/VREF+ (io), 23 RA4/T0CKI/C1OUT (io), 24 RA5/AN4/~{SS}/HLVDIN/C2OUT (io), 25 RE0/~{RD}/AN5 (io), 26 RE1/~{WR}/AN6 (io), 27 RE2/~{CS}/AN7 (io), 28 VDD (power), 29 VSS (power), 30 OSC1/CLKI/RA7 (io), 31 OSC2/CLKO/RA6 (io), 32 RC0/T1OSO/T13CKI (io), 33 NC, 34 NC, 35 RC1/T1OSI/CCP2 (io), 36 RC2/CCP1/P1A (io), 37 RC3/SCK/SCL (io), 38 RD0/PSP0 (io), 39 RD1/PSP1 (io), 40 RD2/PSP2 (io), 41 RD3/PSP3 (io), 42 RC4/SDI/SDA (io), 43 RC5/SDO (io), 44 RC6/TX/CK (io)

## U_PIC18F4520-E/PT_DIP
designator U?, comment PIC18F4520-E/PT
Value: PIC18F4520-E/PT
footprint U_DIP-40
pins: 1 ~{MCLR}/VPP/RE3 (in), 2 RA0/AN0 (io), 3 RA1/AN1 (io), 4 RA2/AN2/VREF-/CVREF (io), 5 RA3/AN3/VREF+ (io), 6 RA4/T0CKI/C1OUT (io), 7 RA5/AN4/~{SS}/HLVDIN/C2OUT (io), 8 RE0/~{RD}/AN5 (io), 9 RE1/~{WR}/AN6 (io), 10 RE2/~{CS}/AN7 (io), 11 VDD (power), 12 VSS (power), 13 OSC1/CLKI/RA7 (io), 14 OSC2/CLKO/RA6 (io), 15 RC0/T1OSO/T13CKI (io), 16 RC1/T1OSI/CCP2 (io), 17 RC2/CCP1/P1A (io), 18 RC3/SCK/SCL (io), 19 RD0/PSP0 (io), 20 RD1/PSP1 (io), 21 RD2/PSP2 (io), 22 RD3/PSP3 (io), 23 RC4/SDI/SDA (io), 24 RC5/SDO (io), 25 RC6/TX/CK (io), 26 RC7/RX/DT (io), 27 RD4/PSP4 (io), 28 RD5/PSP5/P1B (io), 29 RD6/PSP6/P1C (io), 30 RD7/PSP7/P1D (io), 31 VSS (power), 32 VDD (power), 33 RB0/INT0/FLT0/AN12 (io), 34 RB1/INT1/AN10 (io), 35 RB2/INT2/AN8 (io), 36 RB3/AN9/CCP2 (io), 37 RB4/KBI0/AN11 (io), 38 RB5/KBI1/PGM (io), 39 RB6/KBI2/PGC (io), 40 RB7/KBI3/PGD (io)

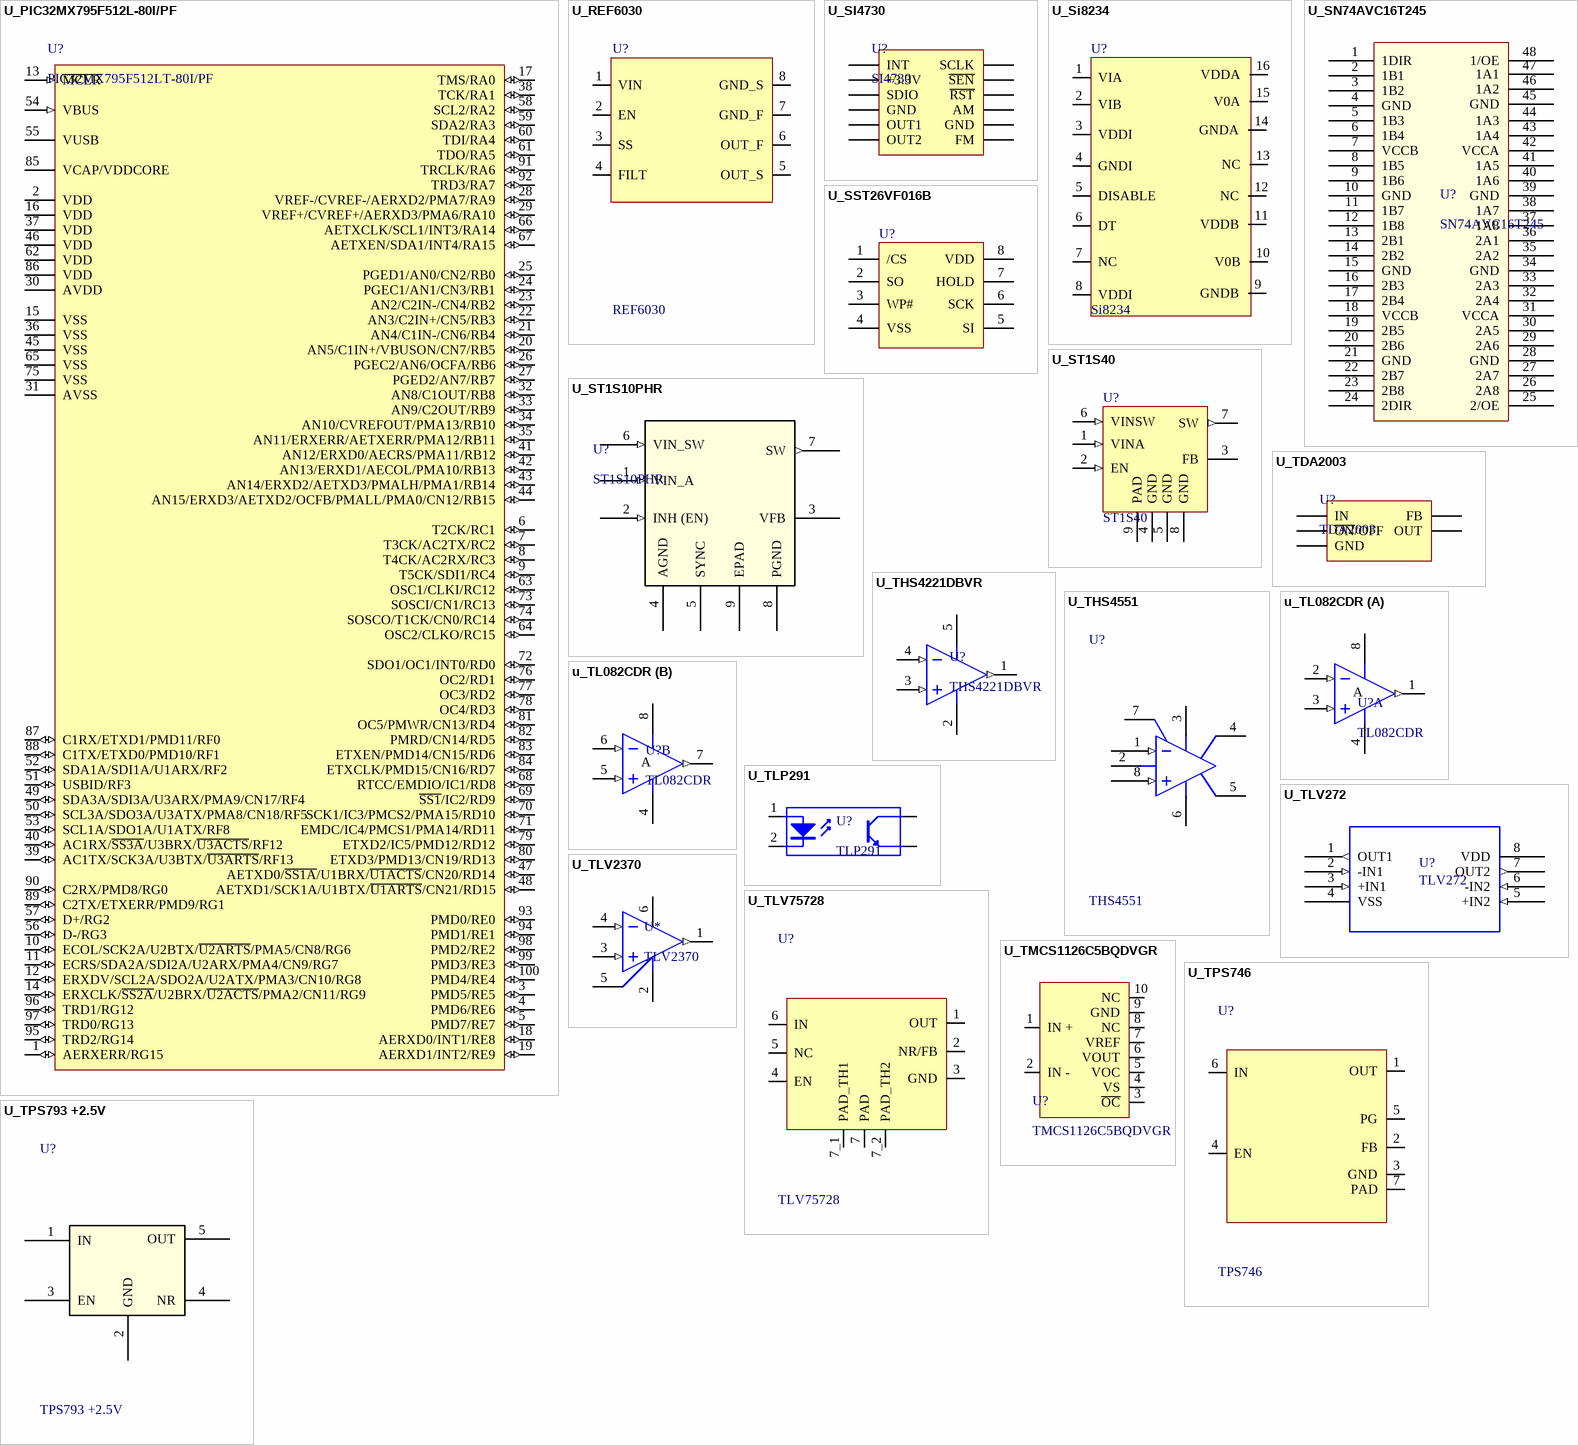
[diagram p15: symbols U_PIC32MX795F512L-80I/PF to U_TPS793 +2.5V]

## U_PIC32MX795F512L-80I/PF
designator U?, comment PIC32MX795F512LT-80I/PF
IC MCU 32BIT 512KB FLASH 100TQFP; Manufacturer: Microchip; Min Supply Voltage: 2.3V; Number of I/Os: 85; Interface: I2C,SPI,USB,CAN,Ethernet,UART,USART; RAM Size: 128KB; Number of Timers/Counters: 5; Frequency: 80MHz; Max Supply Voltage: 3.6V; Data Bus Width: 32b; Oscillator Type: Internal; Watchdog Timer: Yes; Number of UART Channels: 6; Peripherals: Brown-out Detect/Reset,POR,PWM,WDT,DMA; Core Architecture: PIC; Mounting Technology: Surface Mount; Case/Package: TQFP; Pins: 100; Min Operating Temperature: -40°C; Max Operating Temperature: 85°C; Packaging: Tape and Reel; Package Quantity: 1000; Number of Programmable I/O: 85; Clock Frequency: 80MHz; Memory Format: FLASH; Memory Size: 512KB; Series: PIC® 32MX; Radiation Hardening: No; Lead Free: Lead Free; RoHS Compliant: Yes; ComponentLink1URL: https://datasheet.ciiva.com/9239/61156g-9239095.pdf?src-supplier=Avnet; ComponentLink1Description: https://datasheet.ciiva.com/9239/61156g-9239095.pdf?src-supplier=Avnet; ComponentLink2URL: https://datasheet.ciiva.com/6643/61156g-6643295.pdf?src-supplier=Digikey; ComponentLink2Description: https://datasheet.ciiva.com/6643/61156g-6643295.pdf?src-supplier=Digikey; Supplier 1: Mouser; Supplier Part Number 1: 579-32MX795F512LT80I; Manufacturer Part Number: PIC32MX795F512LT-80I/PF; RoHS: Yes; Category: Microcontrollers; Stock 1: 7736; Pricing 1: 1=13,5, 10=13,5, 50=12,38, 100=11,2, 1000=11,2, 10000=11,2 (USD); Value: PIC32MX795F512LT-80I/PF
footprint U_TQFP-100 (100-Pin Plastic Thin Quad Flat Pack (TQFP))
pins: 1 AERXERR/RG15 (io), 2 VDD (power), 3 PMD5/RE5 (io), 4 PMD6/RE6 (io), 5 PMD7/RE7 (io), 6 T2CK/RC1 (io), 7 T3CK/AC2TX/RC2 (io), 8 T4CK/AC2RX/RC3 (io), 9 T5CK/SDI1/RC4 (io), 10 ECOL/SCK2A/U2BTX/~{U2ARTS}/PMA5/CN8/RG6 (io), 11 ECRS/SDA2A/SDI2A/U2ARX/PMA4/CN9/RG7 (io), 12 ERXDV/SCL2A/SDO2A/U2ATX/PMA3/CN10/RG8 (io), 13 ~{MCLR} (in), 14 ERXCLK/~{SS2A}/U2BRX/~{U2ACTS}/PMA2/CN11/RG9 (io), 15 VSS (power), 16 VDD (power), 17 TMS/RA0 (io), 18 AERXD0/INT1/RE8 (io), 19 AERXD1/INT2/RE9 (io), 20 AN5/C1IN+/VBUSON/CN7/RB5 (io), 21 AN4/C1IN-/CN6/RB4 (io), 22 AN3/C2IN+/CN5/RB3 (io), 23 AN2/C2IN-/CN4/RB2 (io), 24 PGEC1/AN1/CN3/RB1 (io), 25 PGED1/AN0/CN2/RB0 (io), 26 PGEC2/AN6/OCFA/RB6 (io), 27 PGED2/AN7/RB7 (io), 28 VREF-/CVREF-/AERXD2/PMA7/RA9 (io), 29 VREF+/CVREF+/AERXD3/PMA6/RA10 (io), 30 AVDD (power), 31 AVSS (power), 32 AN8/C1OUT/RB8 (io), 33 AN9/C2OUT/RB9 (io), 34 AN10/CVREFOUT/PMA13/RB10 (io), 35 AN11/ERXERR/AETXERR/PMA12/RB11 (io), 36 VSS (power), 37 VDD (power), 38 TCK/RA1 (io), 39 AC1TX/SCK3A/U3BTX/~{U3ARTS}/RF13 (io), 40 AC1RX/~{SS3A}/U3BRX/~{U3ACTS}/RF12 (io), 41 AN12/ERXD0/AECRS/PMA11/RB12 (io), 42 AN13/ERXD1/AECOL/PMA10/RB13 (io), 43 AN14/ERXD2/AETXD3/PMALH/PMA1/RB14 (io), 44 AN15/ERXD3/AETXD2/OCFB/PMALL/PMA0/CN12/RB15 (io), 45 VSS (power), 46 VDD (power), 47 AETXD0/~{SS1A}/U1BRX/~{U1ACTS}/CN20/RD14 (io), 48 AETXD1/SCK1A/U1BTX/~{U1ARTS}/CN21/RD15 (io), 49 SDA3A/SDI3A/U3ARX/PMA9/CN17/RF4 (io), 50 SCL3A/SDO3A/U3ATX/PMA8/CN18/RF5 (io), 51 USBID/RF3 (io), 52 SDA1A/SDI1A/U1ARX/RF2 (io), 53 SCL1A/SDO1A/U1ATX/RF8 (io), 54 VBUS (in), 55 VUSB (power), 56 D-/RG3 (io), 57 D+/RG2 (io), 58 SCL2/RA2 (io), 59 SDA2/RA3 (io), 60 TDI/RA4 (io), 61 TDO/RA5 (io), 62 VDD (power), 63 OSC1/CLKI/RC12 (io), 64 OSC2/CLKO/RC15 (io), 65 VSS (power), 66 AETXCLK/SCL1/INT3/RA14 (io), 67 AETXEN/SDA1/INT4/RA15 (io), 68 RTCC/EMDIO/IC1/RD8 (io), 69 ~{SS1}/IC2/RD9 (io), 70 SCK1/IC3/PMCS2/PMA15/RD10 (io), 71 EMDC/IC4/PMCS1/PMA14/RD11 (io), 72 SDO1/OC1/INT0/RD0 (io), 73 SOSCI/CN1/RC13 (io), 74 SOSCO/T1CK/CN0/RC14 (io), 75 VSS (power), 76 OC2/RD1 (io), 77 OC3/RD2 (io), 78 OC4/RD3 (io), 79 ETXD2/IC5/PMD12/RD12 (io), 80 ETXD3/PMD13/CN19/RD13 (io), 81 OC5/PMWR/CN13/RD4 (io), 82 PMRD/CN14/RD5 (io), 83 ETXEN/PMD14/CN15/RD6 (io), 84 ETXCLK/PMD15/CN16/RD7 (io), 85 VCAP/VDDCORE (power), 86 VDD (power), 87 C1RX/ETXD1/PMD11/RF0 (io), 88 C1TX/ETXD0/PMD10/RF1 (io), 89 C2TX/ETXERR/PMD9/RG1 (io), 90 C2RX/PMD8/RG0 (io), 91 TRCLK/RA6 (io), 92 TRD3/RA7 (io), 93 PMD0/RE0 (io), 94 PMD1/RE1 (io), 95 TRD2/RG14 (io), 96 TRD1/RG12 (io), 97 TRD0/RG13 (io), 98 PMD2/RE2 (io), 99 PMD3/RE3 (io), 100 PMD4/RE4 (io)

## U_REF6030
designator U?, comment REF6030
(Modificar) Integrado; Value: REF6030
pins: 1 VIN, 2 EN, 3 SS, 4 FILT, 5 OUT_S, 6 OUT_F, 7 GND_F, 8 GND_S

## U_SI4730
designator U?, comment SI4730
Value: SI4730
footprint U_Si4370
pins: 1 INT, 2 +3.3V, 3 SDIO, 4 GND, 5 OUT1, 6 OUT2, 7 FM, 8 GND, 9 AM, 10 ~{R}~{S}~{T}, 11 ~{S}~{E}~{N}, 12 SCLK

## U_Si8234
designator U?, comment Si8234
Gate Driver SMD SOIC-16 (OK); Manufacturer: Skyworks Solutions; Manufacturer Part Number: SI8234BB-D-IS1R; RoHS Compliant: Yes; Supplier 1: Mouser; Supplier Part Number 1: 634-SI8234BB-D-IS1R; RoHS: Yes; Category: Uncategorized; Stock 1: 15477; Pricing 1: 1=5,27, 10=4,47, 50=4,47, 100=3,88, 1000=2,79, 10000=2,64 (USD); Value: Si8234
footprint U_SOIC-16_MOD_SOP (Union SOIC y SOP)
pins: 1 VIA, 2 VIB, 3 VDDI, 4 GNDI, 5 DISABLE, 6 DT, 7 NC, 8 VDDI, 9 GNDB, 10 V0B, 11 VDDB, 12 NC, 13 NC, 14 GNDA, 15 V0A, 16 VDDA